# EAGLE library part NU32V7_FT231X (library NU32v7)
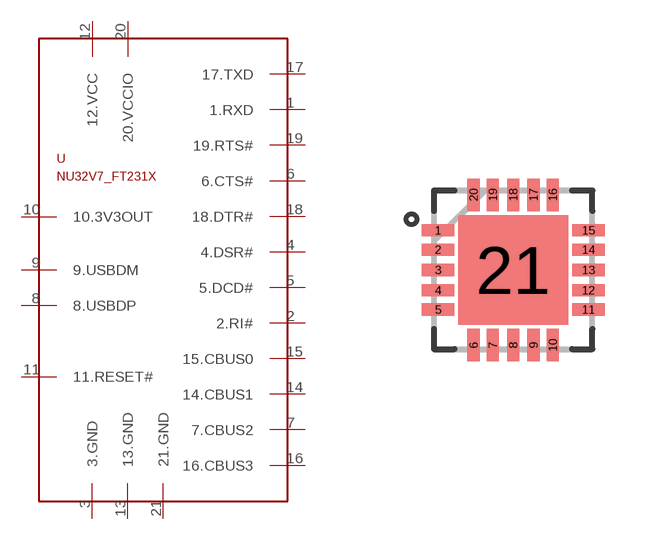
[diagram p0: symbol with the pads of NU32V7_QFN50P400X400X100-21N; footprint NU32V7_QFN50P400X400X100-21N]

Designator prefix -

## NU32V7_FT231X  [NU32V7_QFN50P400X400X100-21N]
1  1.RXD
2  2.RI#
3  3.GND
4  4.DSR#
5  5.DCD#
6  6.CTS#
7  7.CBUS2
8  8.USBDP
9  9.USBDM
10  10.3V3OUT
11  11.RESET#
12  12.VCC
13  13.GND
14  14.CBUS1
15  15.CBUS0
16  16.CBUS3
17  17.TXD
18  18.DTR#
19  19.RTS#
20  20.VCCIO
21  21.GND

## Footprint NU32V7_QFN50P400X400X100-21N (pad centres in mm)
smd 0.813 x 0.305: 1 -1.88,0.991; 2 -1.88,0.508; 3 -1.88,0; 4 -1.88,-0.508; 5 -1.88,-0.991; 11 1.88,-0.991; 12 1.88,-0.508; 13 1.88,0; 14 1.88,0.508; 15 1.88,0.991
smd 0.305 x 0.813: 6 -0.991,-1.88; 7 -0.508,-1.88; 8 0,-1.88; 9 0.508,-1.88; 10 0.991,-1.88; 16 0.991,1.88; 17 0.508,1.88; 18 0,1.88; 19 -0.508,1.88; 20 -0.991,1.88
smd 2.743 x 2.743: 21 0,0